# EAGLE library part RF4432PRO (library lib_stankus)
RF4432PRO
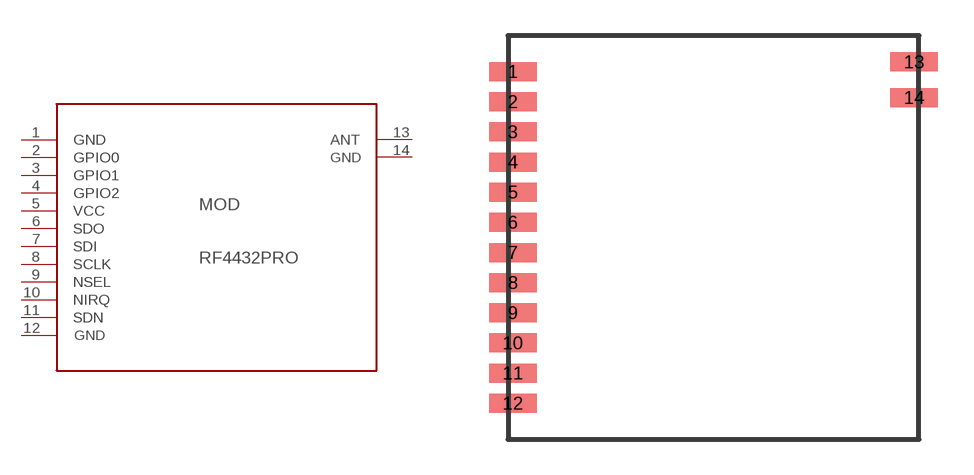
[diagram p117: symbol with the pads of RF4432PRO; footprint RF4432PRO]

Designator prefix MOD

## RF4432PRO  [RF4432PRO]
1  GND  pas
2  GPIO0  pas
3  GPIO1  pas
4  GPIO2  pas
5  VCC  pas
6  SDO  pas
7  SDI  pas
8  SCLK  pas
9  NSEL  pas
10  NIRQ  pas
11  SDN  pas
12  GND  pas
13  ANT  pas
14  GND  pas

## Footprint RF4432PRO (pad centres in mm)
RF4432PRO
smd 2 x 0.8: 1 -8.45,6.985; 2 -8.45,5.715; 3 -8.45,4.445; 4 -8.45,3.175; 5 -8.45,1.905; 6 -8.45,0.635; 7 -8.45,-0.635; 8 -8.45,-1.905; 9 -8.45,-3.175; 10 -8.45,-4.445; 11 -8.45,-5.715; 12 -8.45,-6.985; 13 8.45,7.39; 14 8.45,5.89